# Altium schematic symbol library RF-MAST.SCHLIB: 1 symbol
Pins are listed as number, name and electrical type; pins without a type are passive.

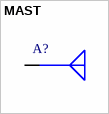
[diagram p0: symbol MAST]

## MAST
designator A?  (net tie, no BOM)
pins: 1